# EAGLE library part FRDM_BASE (library frdm_lib)
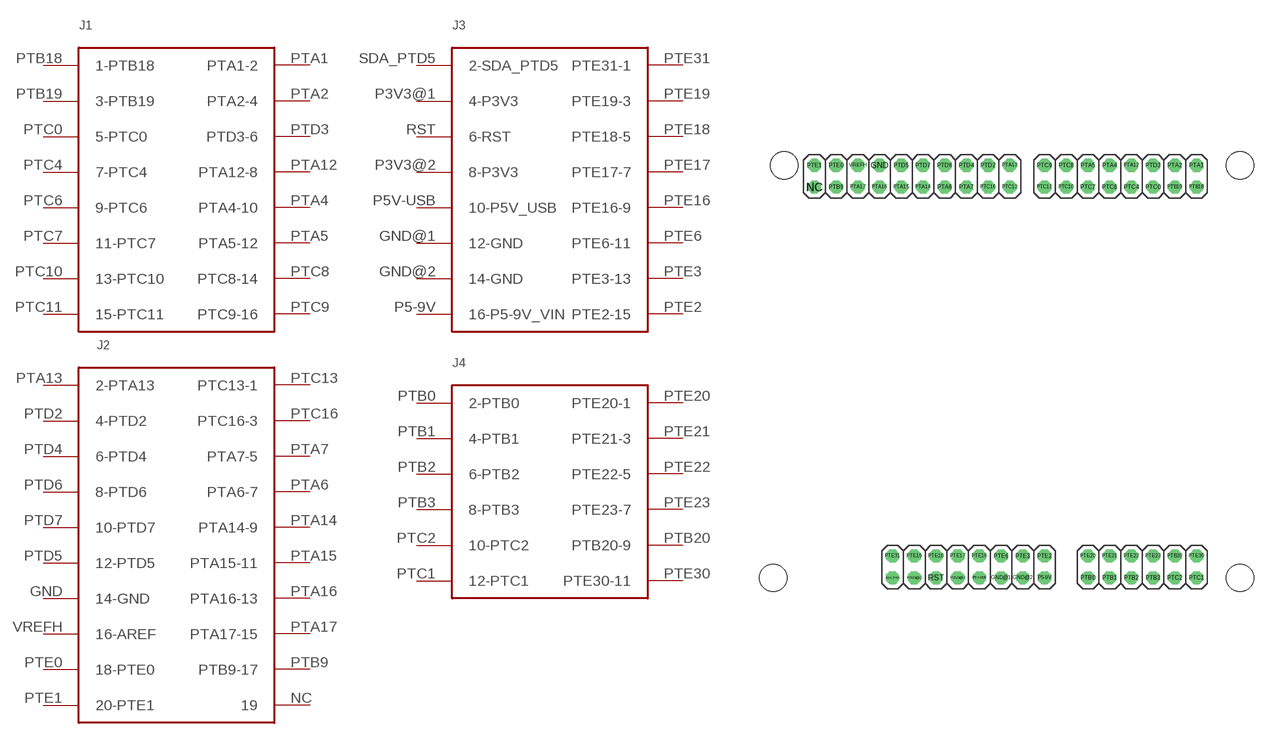
[diagram p0: symbol with the pads of FRDM_BASE; footprint FRDM_BASE]

Designator prefix CON; gates G$1=FRDM_BASE_J1 G$2=FRDM_BASE_J2 G$3=FRDM_BASE_J3 G$4=FRDM_BASE_J4

## FRDM_BASE  [FRDM_BASE]
GND  G$2:14-GND
GND@1  G$3:12-GND
GND@2  G$3:14-GND
NC  G$2:19  nc
P3V3@1  G$3:4-P3V3
P3V3@2  G$3:8-P3V3
P5-9V  G$3:16-P5-9V_VIN
P5V-USB  G$3:10-P5V_USB
PTA1  G$1:PTA1-2
PTA2  G$1:PTA2-4
PTA4  G$1:PTA4-10
PTA5  G$1:PTA5-12
PTA6  G$2:PTA6-7
PTA7  G$2:PTA7-5
PTA12  G$1:PTA12-8
PTA13  G$2:2-PTA13
PTA14  G$2:PTA14-9
PTA15  G$2:PTA15-11
PTA16  G$2:PTA16-13
PTA17  G$2:PTA17-15
PTB0  G$4:2-PTB0
PTB1  G$4:4-PTB1
PTB2  G$4:6-PTB2
PTB3  G$4:8-PTB3
PTB9  G$2:PTB9-17
PTB18  G$1:1-PTB18
PTB19  G$1:3-PTB19
PTB20  G$4:PTB20-9
PTC0  G$1:5-PTC0
PTC1  G$4:12-PTC1
PTC2  G$4:10-PTC2
PTC4  G$1:7-PTC4
PTC6  G$1:9-PTC6
PTC7  G$1:11-PTC7
PTC8  G$1:PTC8-14
PTC9  G$1:PTC9-16
PTC10  G$1:13-PTC10
PTC11  G$1:15-PTC11
PTC13  G$2:PTC13-1
PTC16  G$2:PTC16-3
PTD2  G$2:4-PTD2
PTD3  G$1:PTD3-6
PTD4  G$2:6-PTD4
PTD5  G$2:12-PTD5
PTD6  G$2:8-PTD6
PTD7  G$2:10-PTD7
PTE0  G$2:18-PTE0
PTE1  G$2:20-PTE1
PTE2  G$3:PTE2-15
PTE3  G$3:PTE3-13
PTE6  G$3:PTE6-11
PTE16  G$3:PTE16-9
PTE17  G$3:PTE17-7
PTE18  G$3:PTE18-5
PTE19  G$3:PTE19-3
PTE20  G$4:PTE20-1
PTE21  G$4:PTE21-3
PTE22  G$4:PTE22-5
PTE23  G$4:PTE23-7
PTE30  G$4:PTE30-11
PTE31  G$3:PTE31-1
RST  G$3:6-RST
SDA_PTD5  G$3:2-SDA_PTD5
VREFH  G$2:16-AREF

## Footprint FRDM_BASE (pad centres in mm)
PIN HEADER
drill 1.016 octagon: GND -31.496,46.99; GND@1 -17.272,-1.27; GND@2 -14.732,-1.27; NC -39.116,44.45; P3V3@1 -22.352,-1.27; P3V3@2 -27.432,-1.27; P5-9V -12.192,-1.27; P5V-USB -19.812,-1.27; PTA1 5.588,46.99; PTA2 3.048,46.99; PTA4 -4.572,46.99; PTA5 -7.112,46.99; PTA6 -23.876,44.45; PTA7 -21.336,44.45; PTA12 -2.032,46.99; PTA13 -16.256,46.99; PTA14 -26.416,44.45; PTA15 -28.956,44.45; PTA16 -31.496,44.45; PTA17 -34.036,44.45; PTB0 -7.112,-1.27; PTB1 -4.572,-1.27; PTB2 -2.032,-1.27; PTB3 0.508,-1.27; PTB9 -36.576,44.45; PTB18 5.588,44.45; PTB19 3.048,44.45; PTB20 3.048,1.27; PTC0 0.508,44.45; PTC1 5.588,-1.27; PTC2 3.048,-1.27; PTC4 -2.032,44.45; PTC6 -4.572,44.45; PTC7 -7.112,44.45; PTC8 -9.652,46.99; PTC9 -12.192,46.99; PTC10 -9.652,44.45; PTC11 -12.192,44.45; PTC13 -16.256,44.45; PTC16 -18.796,44.45; PTD2 -18.796,46.99; PTD3 0.508,46.99; PTD4 -21.336,46.99; PTD5 -28.956,46.99; PTD6 -23.876,46.99; PTD7 -26.416,46.99; PTE0 -36.576,46.99; PTE1 -39.116,46.99; PTE2 -12.192,1.27; PTE3 -14.732,1.27; PTE6 -17.272,1.27; PTE16 -19.812,1.27; PTE17 -22.352,1.27; PTE18 -24.892,1.27; PTE19 -27.432,1.27; PTE20 -7.112,1.27; PTE21 -4.572,1.27; PTE22 -2.032,1.27; PTE23 0.508,1.27; PTE30 5.588,1.27; PTE31 -29.972,1.27; RST -24.892,-1.27; SDA_PTD5 -29.972,-1.27; VREFH -34.036,46.99
hole 3.2 at -42.672,46.99
hole 3.2 at -43.942,-1.27
hole 3.2 at 10.668,46.99
hole 3.2 at 10.668,-1.27